# Altium schematic symbol library Serial.SchLib: 7 symbols
Pins are listed as number, name and electrical type; pins without a type are passive.

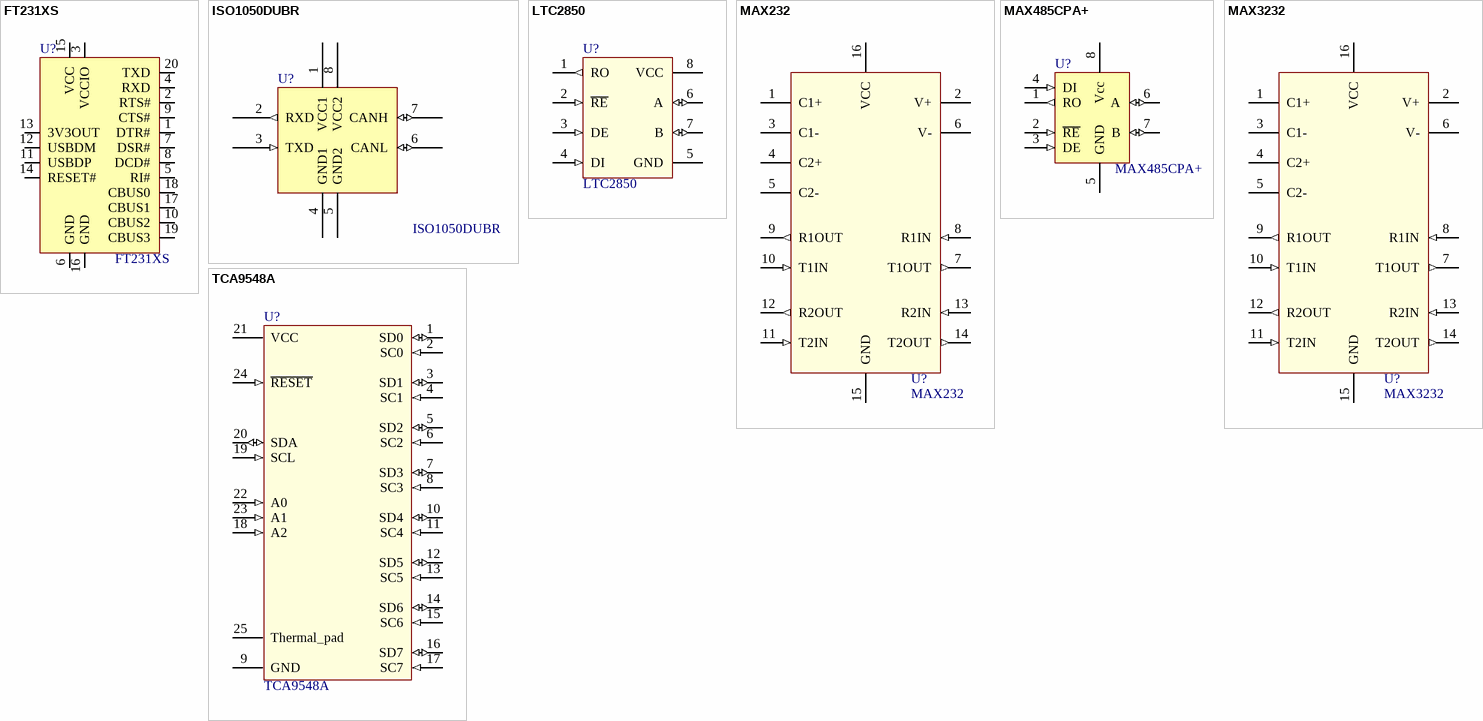
[diagram p0: symbols FT231XS to TCA9548A]

## FT231XS
designator U?
FTDI  FT231XS  I/F USB2.0 FS TO F/L H/S UART 20SSOP; Manufacturer 1: FTDI; Manufacturer Part Number: FT231XS; ComponentLink1Description: http://www.ftdichip.com/Support/Documents/DataSheets/ICs/DS_FT231X.pdf; ComponentLink1URL: http://www.ftdichip.com/Support/Documents/DataSheets/ICs/DS_FT231X.pdf; Supplier 1: Farnell; Supplier Part Number 1: 2081328
footprint SSOP-20 (SOP, 20-Leads, Body 8,7x3,9mm (max), Pitch 0,63mm, IPC Medium Density)
pins: 1 DTR#, 2 RTS#, 3 VCCIO, 4 RXD, 5 RI#, 6 GND, 7 DSR#, 8 DCD#, 9 CTS#, 10 CBUS2, 11 USBDP, 12 USBDM, 13 3V3OUT, 14 RESET#, 15 VCC, 16 GND, 17 CBUS1, 18 CBUS0, 19 CBUS3, 20 TXD

## ISO1050DUBR
designator U?
IC TXRX CAN 5V 8SOP; Manufacturer: Texas Instruments; Supplier 1: Farnell; Supplier Part Number 1: 1755712; Manufacturer Part Number: ISO1050DUBR; ComponentLink1URL: http://www.ti.com/lit/ds/symlink/iso1050.pdf; ComponentLink1Description: http://www.ti.com/lit/ds/symlink/iso1050.pdf
footprint SOP254P1040X485-8N (SOP, 8-Leads, Body 9,50x6,62mm, Pitch 2,54mm, IPC Medium Density)
pins: 1 VCC1 (power), 2 RXD (out), 3 TXD (in), 4 GND1 (power), 5 GND2 (power), 6 CANL (io), 7 CANH (io), 8 VCC2 (power)

## LTC2850
designator U?
3.3V 20Mbits/s RS485 Transcievers
footprint MSOP-8
pins: 1 RO (out), 2 ~{RE} (in), 3 DE (in), 4 DI (in), 5 GND (power), 6 A (io), 7 B (io), 8 VCC (power)

## MAX232
designator U?
footprint DIP16
pins: 1 C1+, 2 V+, 3 C1-, 4 C2+, 5 C2-, 6 V-, 7 T1OUT (out), 8 R1IN (in), 9 R1OUT (out), 10 T1IN (in), 11 T2IN (in), 12 R2OUT (out), 13 R2IN (in), 14 T2OUT (out), 15 GND (power), 16 VCC (power)

## MAX485CPA+
designator U?
IC TXRX RS485/RS422 8-DIP; Manufacturer: Maxim Integrated; Supplier 1: Farnell; Supplier Part Number 1: 2519431; Manufacturer Part Number: MAX485CPA+; ComponentLink1URL: http://datasheets.maximintegrated.com/en/ds/MAX1487-MAX491.pdf; ComponentLink1Description: Datasheet
pins: 1 RO (out), 2 ~{RE} (in), 3 DE (in), 4 DI (in), 5 GND (power), 6 A (io) "Noninverting Receiver Input and Noninverting Driver Output", 7 B (io) "Inverting Receiver Input and Inverting Driver Output", 8 Vcc (power) "Positive Supply: 4.75V   ≤  V  CC  ≤  5.25V"

## MAX3232
designator U?
footprint DIP16
pins: 1 C1+, 2 V+, 3 C1-, 4 C2+, 5 C2-, 6 V-, 7 T1OUT (out), 8 R1IN (in), 9 R1OUT (out), 10 T1IN (in), 11 T2IN (in), 12 R2OUT (out), 13 R2IN (in), 14 T2OUT (out), 15 GND (power), 16 VCC (power)

## TCA9548A
designator U?
Low Voltage 8-Channel I²C Switch with reset
footprint QFN-24
pins: 1 SD0 (io), 2 SC0 (in), 3 SD1 (io), 4 SC1 (in), 5 SD2 (io), 6 SC2 (in), 7 SD3 (io), 8 SC3 (in), 9 GND (power), 10 SD4 (io), 11 SC4 (in), 12 SD5 (io), 13 SC5 (in), 14 SD6 (io), 15 SC6 (in), 16 SD7 (io), 17 SC7 (in), 18 A2 (in), 19 SCL (in), 20 SDA (io), 21 VCC (power), 22 A0 (in), 23 A1 (in), 24 ~{RESET} (in), 25 Thermal_pad